# EAGLE library part LED-LRTDC9TP (library Kemper-Passives)
Bright ass tri color led. 250 mA max If per diode R: Vf = 2.35 G: Vf = 3.5 B: Vf = 3.4
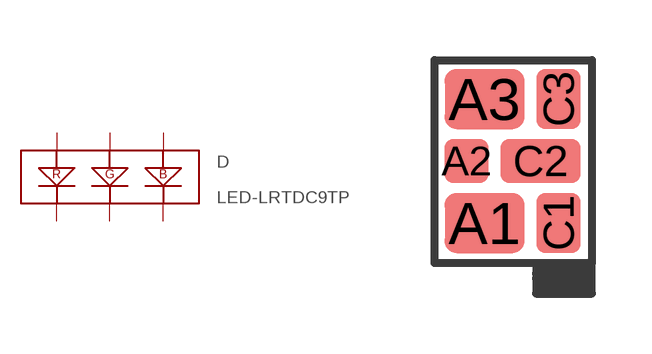
[diagram p0: symbol with the pads of LRTDC9TP-EAFB-GHQN; footprint LRTDC9TP-EAFB-GHQN]

Designator prefix D

## LED-LRTDC9TP (DIGIKEY: 475-2856-1-ND)  [LRTDC9TP-EAFB-GHQN]
A1  A1
A2  A2
A3  A3
C1  C1
C2  C2
C3  C3

## Footprint LRTDC9TP-EAFB-GHQN (pad centres in mm)
smd 2 x 1.5: A1 -0.524,-1.536; A3 -0.524,1.564
smd 1.1 x 1.1: A2 -0.974,0.014
smd 1.1 x 1.5: C1 1.326,-1.536; C3 1.326,1.564
smd 2 x 1.1: C2 0.876,0.014